# Altium integrated library Microchip dsPIC33F.IntLib: 775 symbols (part 22 of 44)
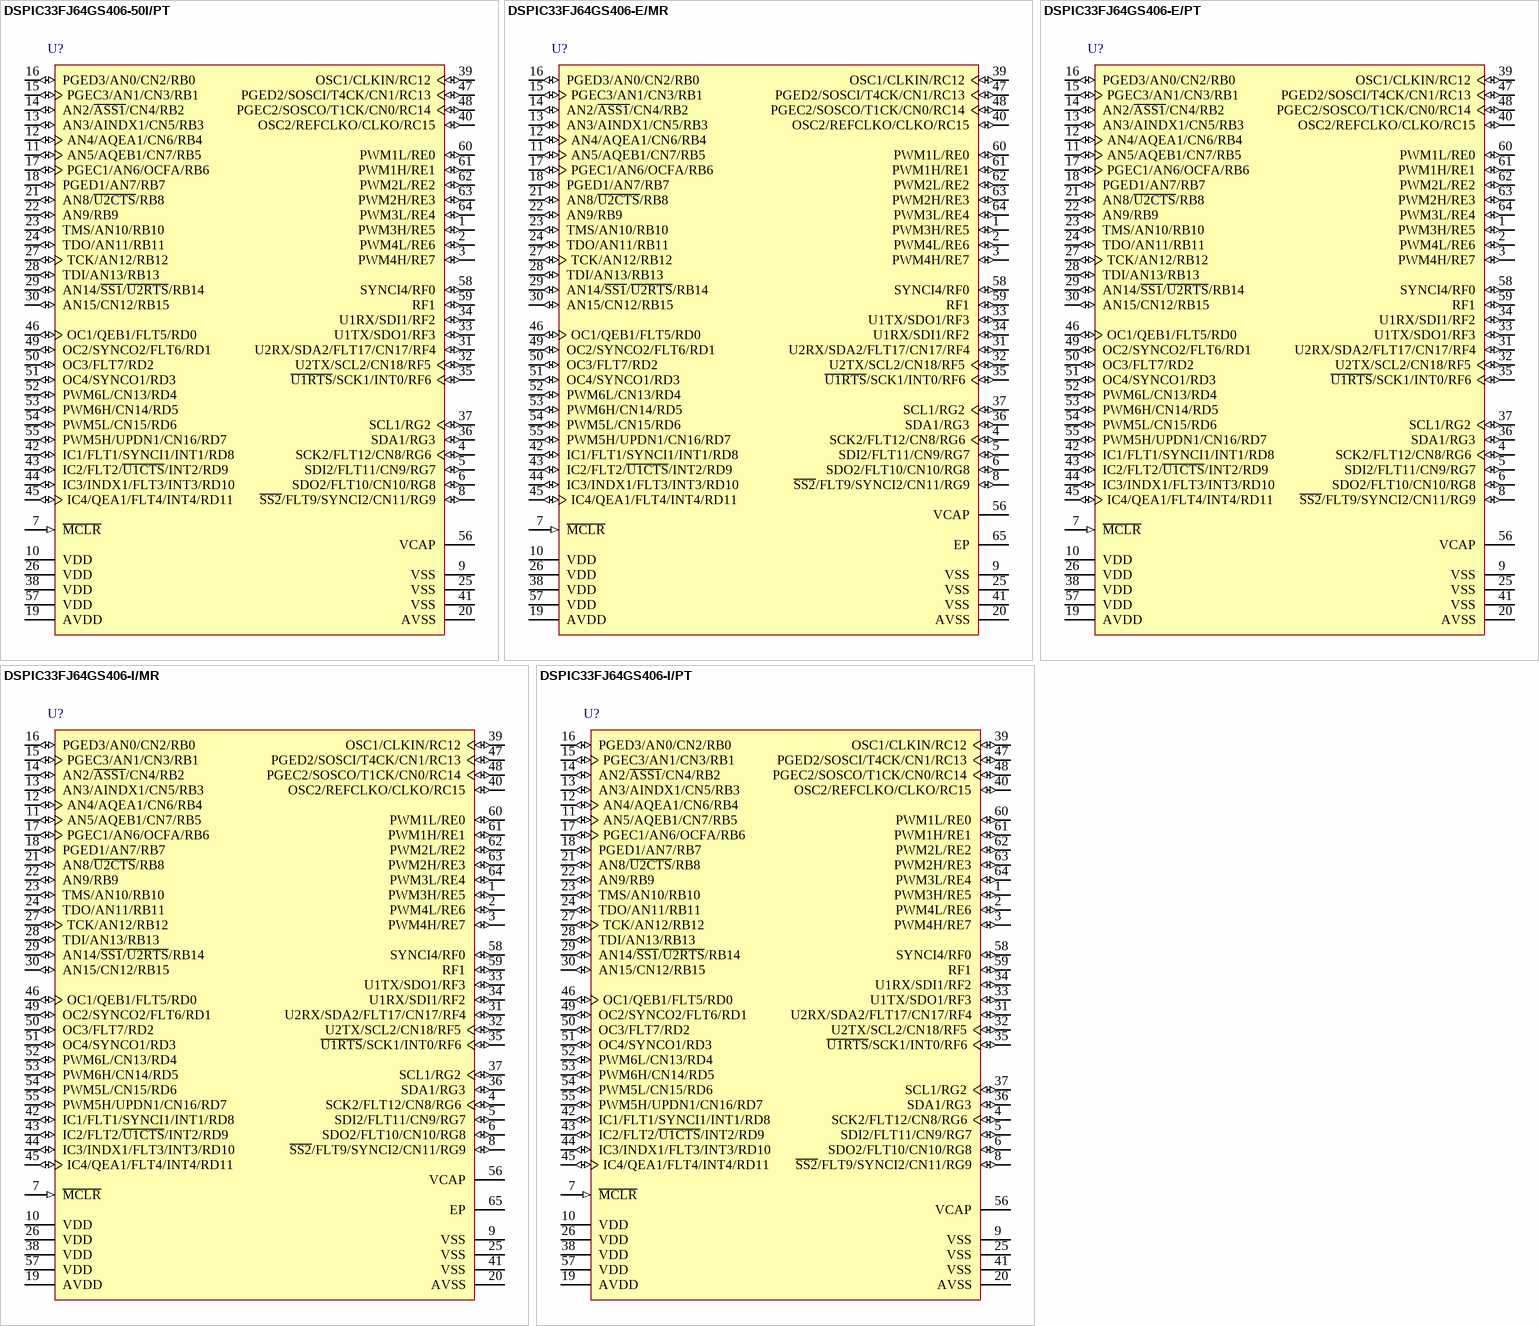
[diagram p179: symbols DSPIC33FJ64GS406-50I/PT to DSPIC33FJ64GS406-I/PT]

## DSPIC33FJ64GS406-50I/PT
designator U?
16-Bit Digital Signal Controller with High-Speed PWM, ADC, 50 MIPS, 58 I/O, GPIO, -40 to 85 degC, 64-pin TQFP (PT64), Tray; Manufacturer: Microchip; PartNumber: DSPIC33FJ64GS406-50I/PT; DatasheetVersion: Rev. E; PackageVersion: C04-085B; PackageReference: TQFP-PT64; PackageDescription: 64-Lead Plastic Thin Quad FlatPack, 10 x 10 mm Body, 0.5 mm Pitch; Supplier 1: Digi-Key; Supplier Part Number 1: DSPIC33FJ64GS406-50I/PT-ND; Supplier 2: Mouser; Supplier Part Number 2: 579-33F64GS40650IPT; Mounting Technology: Surface Mount; ComponentLink1Description: Manufacturer URL; ComponentLink1URL: http://www.microchip.com; ComponentLink2Description: Datasheet; ComponentLink2URL: http://ww1.microchip.com/downloads/en/DeviceDoc/70591e.pdf; ComponentLink3Description: Package Specification; ComponentLink3URL: http://www.microchip.com/stellent/groups/techpub_sg/documents/packagingspec/en012702.pdf; ComponentLink4Description: Product URL; ComponentLink4URL: http://www.microchip.com/dsPIC33FJ64GS406
footprint MCHP-TQFP-PT64_N (TQFP, 64-Leads, Body 10x10mm, Pitch 0.5mm, IPC Medium Density)
footprint MCHP-TQFP-PT64_L (TQFP, 64-Leads, Body 10x10mm, Pitch 0.5mm, IPC High Density)
footprint MCHP-TQFP-PT64_M (TQFP, 64-Leads, Body 10x10mm, Pitch 0.5mm, IPC Low Density)
pins: 1 PWM3H/RE5 (io), 2 PWM4L/RE6 (io), 3 PWM4H/RE7 (io), 4 SCK2/FLT12/CN8/RG6 (io), 5 SDI2/FLT11/CN9/RG7 (io), 6 SDO2/FLT10/CN10/RG8 (io), 7 ~{MCLR} (in) "Master Clear (Reset) input. This pin is an active-low Reset to the device.", 8 ~{SS2}/FLT9/SYNCI2/CN11/RG9 (io), 9 VSS (power) "Ground reference for logic and I/O pins.", 10 VDD (power) "Positive supply for peripheral logic and I/O pins.", 11 AN5/AQEB1/CN7/RB5 (io), 12 AN4/AQEA1/CN6/RB4 (io), 13 AN3/AINDX1/CN5/RB3 (io), 14 AN2/~{ASS1}/CN4/RB2 (io), 15 PGEC3/AN1/CN3/RB1 (io), 16 PGED3/AN0/CN2/RB0 (io), 17 PGEC1/AN6/OCFA/RB6 (io), 18 PGED1/AN7/RB7 (io), 19 AVDD (power) "Positive supply for analog modules. This pin must be connected at all times.", 20 AVSS (power) "Ground reference for analog modules.", 21 AN8/~{U2CTS}/RB8 (io), 22 AN9/RB9 (io), 23 TMS/AN10/RB10 (io), 24 TDO/AN11/RB11 (io), 25 VSS (power) "Ground reference for logic and I/O pins.", 26 VDD (power) "Positive supply for peripheral logic and I/O pins.", 27 TCK/AN12/RB12 (io), 28 TDI/AN13/RB13 (io), 29 AN14/~{SS1}/~{U2RTS}/RB14 (io), 30 AN15/CN12/RB15 (io), 31 U2RX/SDA2/FLT17/CN17/RF4 (io), 32 U2TX/SCL2/CN18/RF5 (io), 33 U1TX/SDO1/RF3 (io), 34 U1RX/SDI1/RF2 (io), 35 ~{U1RTS}/SCK1/INT0/RF6 (io), 36 SDA1/RG3 (io), 37 SCL1/RG2 (io), 38 VDD (power) "Positive supply for peripheral logic and I/O pins.", 39 OSC1/CLKIN/RC12 (io), 40 OSC2/REFCLKO/CLKO/RC15 (io), 41 VSS (power) "Ground reference for logic and I/O pins.", 42 IC1/FLT1/SYNCI1/INT1/RD8 (io), 43 IC2/FLT2/~{U1CTS}/INT2/RD9 (io), 44 IC3/INDX1/FLT3/INT3/RD10 (io), 45 IC4/QEA1/FLT4/INT4/RD11 (io), 46 OC1/QEB1/FLT5/RD0 (io), 47 PGED2/SOSCI/T4CK/CN1/RC13 (io), 48 PGEC2/SOSCO/T1CK/CN0/RC14 (io), 49 OC2/SYNCO2/FLT6/RD1 (io), 50 OC3/FLT7/RD2 (io), 51 OC4/SYNCO1/RD3 (io), 52 PWM6L/CN13/RD4 (io), 53 PWM6H/CN14/RD5 (io), 54 PWM5L/CN15/RD6 (io), 55 PWM5H/UPDN1/CN16/RD7 (io), 56 VCAP "CPU logic filter capacitor connection.", 57 VDD (power) "Positive supply for peripheral logic and I/O pins.", 58 SYNCI4/RF0 (io), 59 RF1 (io) "PORTF is a bidirectional I/O port.", 60 PWM1L/RE0 (io), 61 PWM1H/RE1 (io), 62 PWM2L/RE2 (io), 63 PWM2H/RE3 (io), 64 PWM3L/RE4 (io)

## DSPIC33FJ64GS406-E/MR
designator U?
16-Bit Digital Signal Controller with High-Speed PWM, ADC, 50 MIPS, 58 I/O, GPIO, -40 to 125 degC, 64-pin QFN (MR64), Tube; Manufacturer: Microchip; PartNumber: DSPIC33FJ64GS406-E/MR; DatasheetVersion: Rev. E; PackageVersion: C04-149C; PackageReference: QFN-MR64; PackageDescription: 64-Lead Plastic Quad Flat, 9 x 9 mm Body, 0.5 mm Pitch; Supplier 1: Digi-Key; Supplier Part Number 1: DSPIC33FJ64GS406-E/MR-ND; Supplier 2: Mouser; Supplier Part Number 2: 579-33FJ64GS406-E/MR; Mounting Technology: Surface Mount; ComponentLink1Description: Manufacturer URL; ComponentLink1URL: http://www.microchip.com; ComponentLink2Description: Datasheet; ComponentLink2URL: http://ww1.microchip.com/downloads/en/DeviceDoc/70591e.pdf; ComponentLink3Description: Package Specification; ComponentLink3URL: http://www.microchip.com/stellent/groups/techpub_sg/documents/packagingspec/en012702.pdf; ComponentLink4Description: Product URL; ComponentLink4URL: http://www.microchip.com/dsPIC33FJ64GS406
footprint MCHP-QFN-MR64-7275X7275TP_N (QFN, 64-Leads, Body 9x9mm, Pitch 0.5mm, Thermal Pad 7.275x7.275mm, IPC Medium Density)
footprint MCHP-QFN-MR64-7275X7275TP_L (QFN, 64-Leads, Body 9x9mm, Pitch 0.5mm, Thermal Pad 7.275x7.275mm, IPC High Density)
footprint MCHP-QFN-MR64-7275X7275TP_M (QFN, 64-Leads, Body 9x9mm, Pitch 0.5mm, Thermal Pad 7.275x7.275mm, IPC Low Density)
pins: 1 PWM3H/RE5 (io), 2 PWM4L/RE6 (io), 3 PWM4H/RE7 (io), 4 SCK2/FLT12/CN8/RG6 (io), 5 SDI2/FLT11/CN9/RG7 (io), 6 SDO2/FLT10/CN10/RG8 (io), 7 ~{MCLR} (in) "Master Clear (Reset) input. This pin is an active-low Reset to the device.", 8 ~{SS2}/FLT9/SYNCI2/CN11/RG9 (io), 9 VSS (power) "Ground reference for logic and I/O pins.", 10 VDD (power) "Positive supply for peripheral logic and I/O pins.", 11 AN5/AQEB1/CN7/RB5 (io), 12 AN4/AQEA1/CN6/RB4 (io), 13 AN3/AINDX1/CN5/RB3 (io), 14 AN2/~{ASS1}/CN4/RB2 (io), 15 PGEC3/AN1/CN3/RB1 (io), 16 PGED3/AN0/CN2/RB0 (io), 17 PGEC1/AN6/OCFA/RB6 (io), 18 PGED1/AN7/RB7 (io), 19 AVDD (power) "Positive supply for analog modules. This pin must be connected at all times.", 20 AVSS (power) "Ground reference for analog modules.", 21 AN8/~{U2CTS}/RB8 (io), 22 AN9/RB9 (io), 23 TMS/AN10/RB10 (io), 24 TDO/AN11/RB11 (io), 25 VSS (power) "Ground reference for logic and I/O pins.", 26 VDD (power) "Positive supply for peripheral logic and I/O pins.", 27 TCK/AN12/RB12 (io), 28 TDI/AN13/RB13 (io), 29 AN14/~{SS1}/~{U2RTS}/RB14 (io), 30 AN15/CN12/RB15 (io), 31 U2RX/SDA2/FLT17/CN17/RF4 (io), 32 U2TX/SCL2/CN18/RF5 (io), 33 U1TX/SDO1/RF3 (io), 34 U1RX/SDI1/RF2 (io), 35 ~{U1RTS}/SCK1/INT0/RF6 (io), 36 SDA1/RG3 (io), 37 SCL1/RG2 (io), 38 VDD (power) "Positive supply for peripheral logic and I/O pins.", 39 OSC1/CLKIN/RC12 (io), 40 OSC2/REFCLKO/CLKO/RC15 (io), 41 VSS (power) "Ground reference for logic and I/O pins.", 42 IC1/FLT1/SYNCI1/INT1/RD8 (io), 43 IC2/FLT2/~{U1CTS}/INT2/RD9 (io), 44 IC3/INDX1/FLT3/INT3/RD10 (io), 45 IC4/QEA1/FLT4/INT4/RD11 (io), 46 OC1/QEB1/FLT5/RD0 (io), 47 PGED2/SOSCI/T4CK/CN1/RC13 (io), 48 PGEC2/SOSCO/T1CK/CN0/RC14 (io), 49 OC2/SYNCO2/FLT6/RD1 (io), 50 OC3/FLT7/RD2 (io), 51 OC4/SYNCO1/RD3 (io), 52 PWM6L/CN13/RD4 (io), 53 PWM6H/CN14/RD5 (io), 54 PWM5L/CN15/RD6 (io), 55 PWM5H/UPDN1/CN16/RD7 (io), 56 VCAP "CPU logic filter capacitor connection.", 57 VDD (power) "Positive supply for peripheral logic and I/O pins.", 58 SYNCI4/RF0 (io), 59 RF1 (io) "PORTF is a bidirectional I/O port.", 60 PWM1L/RE0 (io), 61 PWM1H/RE1 (io), 62 PWM2L/RE2 (io), 63 PWM2H/RE3 (io), 64 PWM3L/RE4 (io), 65 EP (power)

## DSPIC33FJ64GS406-E/PT
designator U?
16-Bit Digital Signal Controller with High-Speed PWM, ADC, 50 MIPS, 58 I/O, GPIO, -40 to 125 degC, 64-pin TQFP (PT64), Tray; Manufacturer: Microchip; PartNumber: DSPIC33FJ64GS406-E/PT; DatasheetVersion: Rev. E; PackageVersion: C04-085B; PackageReference: TQFP-PT64; PackageDescription: 64-Lead Plastic Thin Quad FlatPack, 10 x 10 mm Body, 0.5 mm Pitch; Supplier 1: Digi-Key; Supplier Part Number 1: DSPIC33FJ64GS406-E/PT-ND; Supplier 2: Mouser; Supplier Part Number 2: 579-33FJ64GS406-E/PT; Mounting Technology: Surface Mount; ComponentLink1Description: Manufacturer URL; ComponentLink1URL: http://www.microchip.com; ComponentLink2Description: Datasheet; ComponentLink2URL: http://ww1.microchip.com/downloads/en/DeviceDoc/70591e.pdf; ComponentLink3Description: Package Specification; ComponentLink3URL: http://www.microchip.com/stellent/groups/techpub_sg/documents/packagingspec/en012702.pdf; ComponentLink4Description: Product URL; ComponentLink4URL: http://www.microchip.com/dsPIC33FJ64GS406
footprint MCHP-TQFP-PT64_N (TQFP, 64-Leads, Body 10x10mm, Pitch 0.5mm, IPC Medium Density)
footprint MCHP-TQFP-PT64_L (TQFP, 64-Leads, Body 10x10mm, Pitch 0.5mm, IPC High Density)
footprint MCHP-TQFP-PT64_M (TQFP, 64-Leads, Body 10x10mm, Pitch 0.5mm, IPC Low Density)
pins: 1 PWM3H/RE5 (io), 2 PWM4L/RE6 (io), 3 PWM4H/RE7 (io), 4 SCK2/FLT12/CN8/RG6 (io), 5 SDI2/FLT11/CN9/RG7 (io), 6 SDO2/FLT10/CN10/RG8 (io), 7 ~{MCLR} (in) "Master Clear (Reset) input. This pin is an active-low Reset to the device.", 8 ~{SS2}/FLT9/SYNCI2/CN11/RG9 (io), 9 VSS (power) "Ground reference for logic and I/O pins.", 10 VDD (power) "Positive supply for peripheral logic and I/O pins.", 11 AN5/AQEB1/CN7/RB5 (io), 12 AN4/AQEA1/CN6/RB4 (io), 13 AN3/AINDX1/CN5/RB3 (io), 14 AN2/~{ASS1}/CN4/RB2 (io), 15 PGEC3/AN1/CN3/RB1 (io), 16 PGED3/AN0/CN2/RB0 (io), 17 PGEC1/AN6/OCFA/RB6 (io), 18 PGED1/AN7/RB7 (io), 19 AVDD (power) "Positive supply for analog modules. This pin must be connected at all times.", 20 AVSS (power) "Ground reference for analog modules.", 21 AN8/~{U2CTS}/RB8 (io), 22 AN9/RB9 (io), 23 TMS/AN10/RB10 (io), 24 TDO/AN11/RB11 (io), 25 VSS (power) "Ground reference for logic and I/O pins.", 26 VDD (power) "Positive supply for peripheral logic and I/O pins.", 27 TCK/AN12/RB12 (io), 28 TDI/AN13/RB13 (io), 29 AN14/~{SS1}/~{U2RTS}/RB14 (io), 30 AN15/CN12/RB15 (io), 31 U2RX/SDA2/FLT17/CN17/RF4 (io), 32 U2TX/SCL2/CN18/RF5 (io), 33 U1TX/SDO1/RF3 (io), 34 U1RX/SDI1/RF2 (io), 35 ~{U1RTS}/SCK1/INT0/RF6 (io), 36 SDA1/RG3 (io), 37 SCL1/RG2 (io), 38 VDD (power) "Positive supply for peripheral logic and I/O pins.", 39 OSC1/CLKIN/RC12 (io), 40 OSC2/REFCLKO/CLKO/RC15 (io), 41 VSS (power) "Ground reference for logic and I/O pins.", 42 IC1/FLT1/SYNCI1/INT1/RD8 (io), 43 IC2/FLT2/~{U1CTS}/INT2/RD9 (io), 44 IC3/INDX1/FLT3/INT3/RD10 (io), 45 IC4/QEA1/FLT4/INT4/RD11 (io), 46 OC1/QEB1/FLT5/RD0 (io), 47 PGED2/SOSCI/T4CK/CN1/RC13 (io), 48 PGEC2/SOSCO/T1CK/CN0/RC14 (io), 49 OC2/SYNCO2/FLT6/RD1 (io), 50 OC3/FLT7/RD2 (io), 51 OC4/SYNCO1/RD3 (io), 52 PWM6L/CN13/RD4 (io), 53 PWM6H/CN14/RD5 (io), 54 PWM5L/CN15/RD6 (io), 55 PWM5H/UPDN1/CN16/RD7 (io), 56 VCAP "CPU logic filter capacitor connection.", 57 VDD (power) "Positive supply for peripheral logic and I/O pins.", 58 SYNCI4/RF0 (io), 59 RF1 (io) "PORTF is a bidirectional I/O port.", 60 PWM1L/RE0 (io), 61 PWM1H/RE1 (io), 62 PWM2L/RE2 (io), 63 PWM2H/RE3 (io), 64 PWM3L/RE4 (io)

## DSPIC33FJ64GS406-I/MR
designator U?
16-Bit Digital Signal Controller with High-Speed PWM, ADC, 50 MIPS, 58 I/O, GPIO, -40 to 85 degC, 64-pin QFN (MR64), Tube; Manufacturer: Microchip; PartNumber: DSPIC33FJ64GS406-I/MR; DatasheetVersion: Rev. E; PackageVersion: C04-149C; PackageReference: QFN-MR64; PackageDescription: 64-Lead Plastic Quad Flat, 9 x 9 mm Body, 0.5 mm Pitch; Supplier 1: Digi-Key; Supplier Part Number 1: DSPIC33FJ64GS406-I/MR-ND; Supplier 2: Mouser; Supplier Part Number 2: 579-33FJ64GS406-I/MR; Mounting Technology: Surface Mount; ComponentLink1Description: Manufacturer URL; ComponentLink1URL: http://www.microchip.com; ComponentLink2Description: Datasheet; ComponentLink2URL: http://ww1.microchip.com/downloads/en/DeviceDoc/70591e.pdf; ComponentLink3Description: Package Specification; ComponentLink3URL: http://www.microchip.com/stellent/groups/techpub_sg/documents/packagingspec/en012702.pdf; ComponentLink4Description: Product URL; ComponentLink4URL: http://www.microchip.com/dsPIC33FJ64GS406
footprint MCHP-QFN-MR64-7275X7275TP_N (QFN, 64-Leads, Body 9x9mm, Pitch 0.5mm, Thermal Pad 7.275x7.275mm, IPC Medium Density)
footprint MCHP-QFN-MR64-7275X7275TP_L (QFN, 64-Leads, Body 9x9mm, Pitch 0.5mm, Thermal Pad 7.275x7.275mm, IPC High Density)
footprint MCHP-QFN-MR64-7275X7275TP_M (QFN, 64-Leads, Body 9x9mm, Pitch 0.5mm, Thermal Pad 7.275x7.275mm, IPC Low Density)
pins: 1 PWM3H/RE5 (io), 2 PWM4L/RE6 (io), 3 PWM4H/RE7 (io), 4 SCK2/FLT12/CN8/RG6 (io), 5 SDI2/FLT11/CN9/RG7 (io), 6 SDO2/FLT10/CN10/RG8 (io), 7 ~{MCLR} (in) "Master Clear (Reset) input. This pin is an active-low Reset to the device.", 8 ~{SS2}/FLT9/SYNCI2/CN11/RG9 (io), 9 VSS (power) "Ground reference for logic and I/O pins.", 10 VDD (power) "Positive supply for peripheral logic and I/O pins.", 11 AN5/AQEB1/CN7/RB5 (io), 12 AN4/AQEA1/CN6/RB4 (io), 13 AN3/AINDX1/CN5/RB3 (io), 14 AN2/~{ASS1}/CN4/RB2 (io), 15 PGEC3/AN1/CN3/RB1 (io), 16 PGED3/AN0/CN2/RB0 (io), 17 PGEC1/AN6/OCFA/RB6 (io), 18 PGED1/AN7/RB7 (io), 19 AVDD (power) "Positive supply for analog modules. This pin must be connected at all times.", 20 AVSS (power) "Ground reference for analog modules.", 21 AN8/~{U2CTS}/RB8 (io), 22 AN9/RB9 (io), 23 TMS/AN10/RB10 (io), 24 TDO/AN11/RB11 (io), 25 VSS (power) "Ground reference for logic and I/O pins.", 26 VDD (power) "Positive supply for peripheral logic and I/O pins.", 27 TCK/AN12/RB12 (io), 28 TDI/AN13/RB13 (io), 29 AN14/~{SS1}/~{U2RTS}/RB14 (io), 30 AN15/CN12/RB15 (io), 31 U2RX/SDA2/FLT17/CN17/RF4 (io), 32 U2TX/SCL2/CN18/RF5 (io), 33 U1TX/SDO1/RF3 (io), 34 U1RX/SDI1/RF2 (io), 35 ~{U1RTS}/SCK1/INT0/RF6 (io), 36 SDA1/RG3 (io), 37 SCL1/RG2 (io), 38 VDD (power) "Positive supply for peripheral logic and I/O pins.", 39 OSC1/CLKIN/RC12 (io), 40 OSC2/REFCLKO/CLKO/RC15 (io), 41 VSS (power) "Ground reference for logic and I/O pins.", 42 IC1/FLT1/SYNCI1/INT1/RD8 (io), 43 IC2/FLT2/~{U1CTS}/INT2/RD9 (io), 44 IC3/INDX1/FLT3/INT3/RD10 (io), 45 IC4/QEA1/FLT4/INT4/RD11 (io), 46 OC1/QEB1/FLT5/RD0 (io), 47 PGED2/SOSCI/T4CK/CN1/RC13 (io), 48 PGEC2/SOSCO/T1CK/CN0/RC14 (io), 49 OC2/SYNCO2/FLT6/RD1 (io), 50 OC3/FLT7/RD2 (io), 51 OC4/SYNCO1/RD3 (io), 52 PWM6L/CN13/RD4 (io), 53 PWM6H/CN14/RD5 (io), 54 PWM5L/CN15/RD6 (io), 55 PWM5H/UPDN1/CN16/RD7 (io), 56 VCAP "CPU logic filter capacitor connection.", 57 VDD (power) "Positive supply for peripheral logic and I/O pins.", 58 SYNCI4/RF0 (io), 59 RF1 (io) "PORTF is a bidirectional I/O port.", 60 PWM1L/RE0 (io), 61 PWM1H/RE1 (io), 62 PWM2L/RE2 (io), 63 PWM2H/RE3 (io), 64 PWM3L/RE4 (io), 65 EP (power)

## DSPIC33FJ64GS406-I/PT
designator U?
16-Bit Digital Signal Controller with High-Speed PWM, ADC, 50 MIPS, 58 I/O, GPIO, -40 to 85 degC, 64-pin TQFP (PT64), Tray; Manufacturer: Microchip; PartNumber: DSPIC33FJ64GS406-I/PT; DatasheetVersion: Rev. E; PackageVersion: C04-085B; PackageReference: TQFP-PT64; PackageDescription: 64-Lead Plastic Thin Quad FlatPack, 10 x 10 mm Body, 0.5 mm Pitch; Supplier 1: Digi-Key; Supplier Part Number 1: DSPIC33FJ64GS406-I/PT-ND; Supplier 2: Farnell; Supplier Part Number 2: 1823293; Supplier 3: Farnell; Supplier Part Number 3: 1823293MPKG; Supplier 4: Newark; Supplier Part Number 4: 08R1551; Supplier 5: Mouser; Supplier Part Number 5: 579-33FJ64GS406-I/PT; Mounting Technology: Surface Mount; ComponentLink1Description: Manufacturer URL; ComponentLink1URL: http://www.microchip.com; ComponentLink2Description: Datasheet; ComponentLink2URL: http://ww1.microchip.com/downloads/en/DeviceDoc/70591e.pdf; ComponentLink3Description: Package Specification; ComponentLink3URL: http://www.microchip.com/stellent/groups/techpub_sg/documents/packagingspec/en012702.pdf; ComponentLink4Description: Product URL; ComponentLink4URL: http://www.microchip.com/dsPIC33FJ64GS406
footprint MCHP-TQFP-PT64_N (TQFP, 64-Leads, Body 10x10mm, Pitch 0.5mm, IPC Medium Density)
footprint MCHP-TQFP-PT64_L (TQFP, 64-Leads, Body 10x10mm, Pitch 0.5mm, IPC High Density)
footprint MCHP-TQFP-PT64_M (TQFP, 64-Leads, Body 10x10mm, Pitch 0.5mm, IPC Low Density)
pins: 1 PWM3H/RE5 (io), 2 PWM4L/RE6 (io), 3 PWM4H/RE7 (io), 4 SCK2/FLT12/CN8/RG6 (io), 5 SDI2/FLT11/CN9/RG7 (io), 6 SDO2/FLT10/CN10/RG8 (io), 7 ~{MCLR} (in) "Master Clear (Reset) input. This pin is an active-low Reset to the device.", 8 ~{SS2}/FLT9/SYNCI2/CN11/RG9 (io), 9 VSS (power) "Ground reference for logic and I/O pins.", 10 VDD (power) "Positive supply for peripheral logic and I/O pins.", 11 AN5/AQEB1/CN7/RB5 (io), 12 AN4/AQEA1/CN6/RB4 (io), 13 AN3/AINDX1/CN5/RB3 (io), 14 AN2/~{ASS1}/CN4/RB2 (io), 15 PGEC3/AN1/CN3/RB1 (io), 16 PGED3/AN0/CN2/RB0 (io), 17 PGEC1/AN6/OCFA/RB6 (io), 18 PGED1/AN7/RB7 (io), 19 AVDD (power) "Positive supply for analog modules. This pin must be connected at all times.", 20 AVSS (power) "Ground reference for analog modules.", 21 AN8/~{U2CTS}/RB8 (io), 22 AN9/RB9 (io), 23 TMS/AN10/RB10 (io), 24 TDO/AN11/RB11 (io), 25 VSS (power) "Ground reference for logic and I/O pins.", 26 VDD (power) "Positive supply for peripheral logic and I/O pins.", 27 TCK/AN12/RB12 (io), 28 TDI/AN13/RB13 (io), 29 AN14/~{SS1}/~{U2RTS}/RB14 (io), 30 AN15/CN12/RB15 (io), 31 U2RX/SDA2/FLT17/CN17/RF4 (io), 32 U2TX/SCL2/CN18/RF5 (io), 33 U1TX/SDO1/RF3 (io), 34 U1RX/SDI1/RF2 (io), 35 ~{U1RTS}/SCK1/INT0/RF6 (io), 36 SDA1/RG3 (io), 37 SCL1/RG2 (io), 38 VDD (power) "Positive supply for peripheral logic and I/O pins.", 39 OSC1/CLKIN/RC12 (io), 40 OSC2/REFCLKO/CLKO/RC15 (io), 41 VSS (power) "Ground reference for logic and I/O pins.", 42 IC1/FLT1/SYNCI1/INT1/RD8 (io), 43 IC2/FLT2/~{U1CTS}/INT2/RD9 (io), 44 IC3/INDX1/FLT3/INT3/RD10 (io), 45 IC4/QEA1/FLT4/INT4/RD11 (io), 46 OC1/QEB1/FLT5/RD0 (io), 47 PGED2/SOSCI/T4CK/CN1/RC13 (io), 48 PGEC2/SOSCO/T1CK/CN0/RC14 (io), 49 OC2/SYNCO2/FLT6/RD1 (io), 50 OC3/FLT7/RD2 (io), 51 OC4/SYNCO1/RD3 (io), 52 PWM6L/CN13/RD4 (io), 53 PWM6H/CN14/RD5 (io), 54 PWM5L/CN15/RD6 (io), 55 PWM5H/UPDN1/CN16/RD7 (io), 56 VCAP "CPU logic filter capacitor connection.", 57 VDD (power) "Positive supply for peripheral logic and I/O pins.", 58 SYNCI4/RF0 (io), 59 RF1 (io) "PORTF is a bidirectional I/O port.", 60 PWM1L/RE0 (io), 61 PWM1H/RE1 (io), 62 PWM2L/RE2 (io), 63 PWM2H/RE3 (io), 64 PWM3L/RE4 (io)

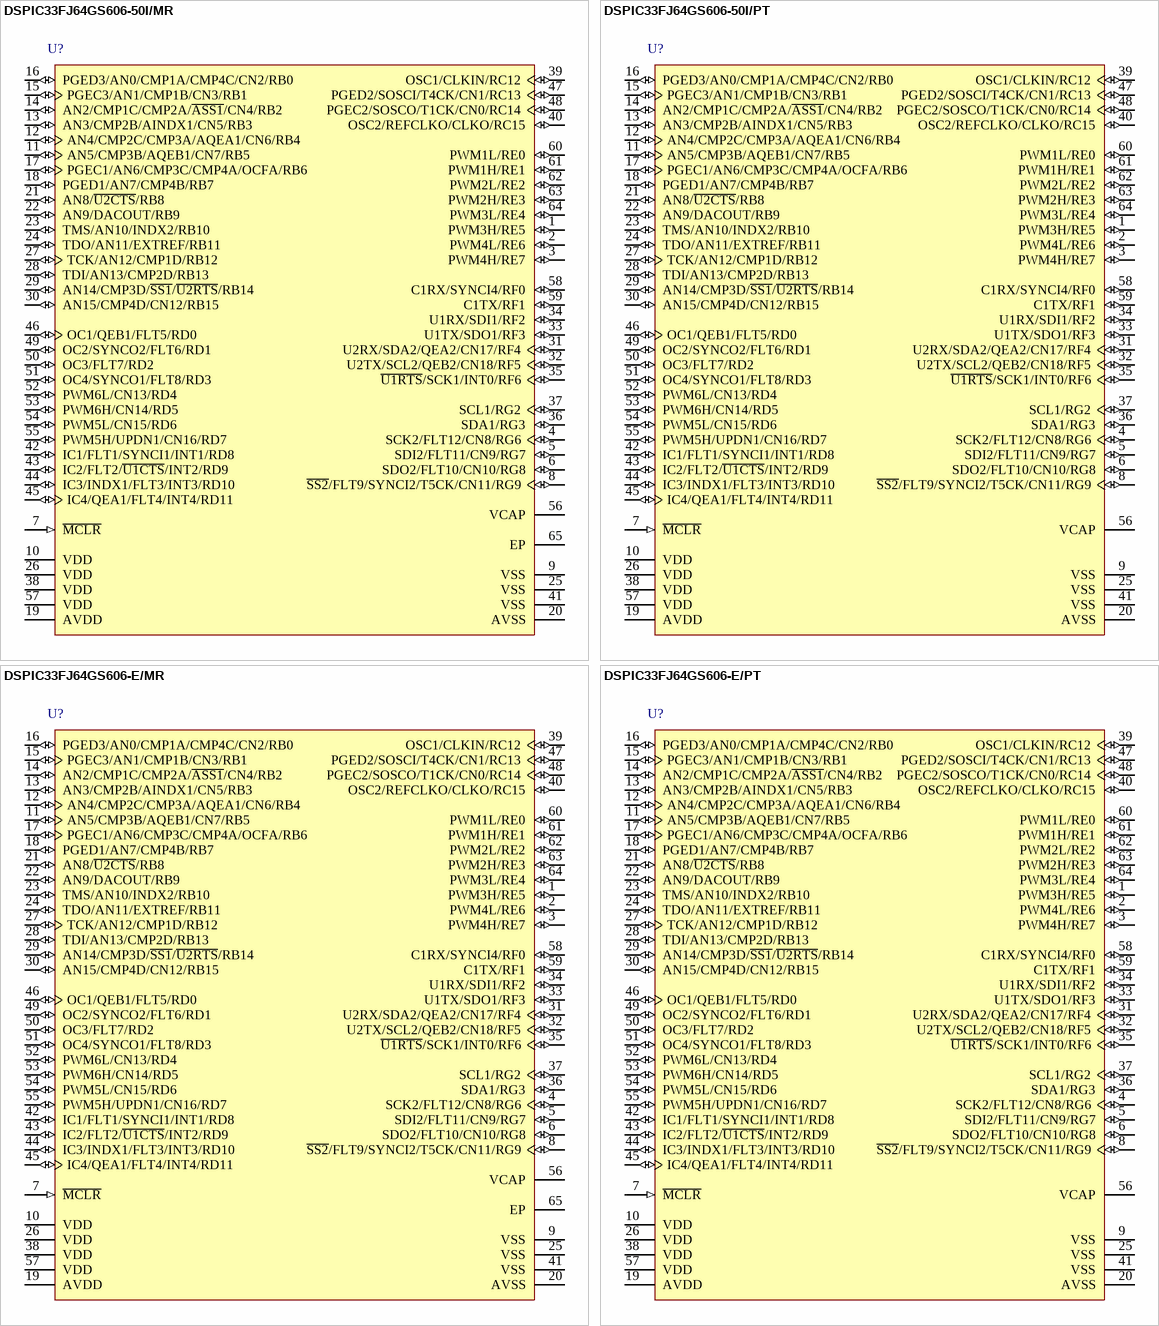
[diagram p71: symbols DSPIC33FJ64GS606-50I/MR to DSPIC33FJ64GS606-E/PT]

## DSPIC33FJ64GS606-50I/MR
designator U?
16-Bit Digital Signal Controller with High-Speed PWM, ADC and Comparators, 50 MIPS, 58 I/O, GPIO, -40 to 85 degC, 64-pin QFN (MR64), Tube; Manufacturer: Microchip; PartNumber: DSPIC33FJ64GS606-50I/MR; DatasheetVersion: Rev. E; PackageVersion: C04-149C; PackageReference: QFN-MR64; PackageDescription: 64-Lead Plastic Quad Flat, 9 x 9 mm Body, 0.5 mm Pitch; Supplier 1: Digi-Key; Supplier Part Number 1: DSPIC33FJ64GS606-50I/MR-ND; Supplier 2: Mouser; Supplier Part Number 2: 579-33F64GS60650IMR; Mounting Technology: Surface Mount; ComponentLink1Description: Manufacturer URL; ComponentLink1URL: http://www.microchip.com; ComponentLink2Description: Datasheet; ComponentLink2URL: http://ww1.microchip.com/downloads/en/DeviceDoc/70591e.pdf; ComponentLink3Description: Package Specification; ComponentLink3URL: http://www.microchip.com/stellent/groups/techpub_sg/documents/packagingspec/en012702.pdf; ComponentLink4Description: Product URL; ComponentLink4URL: http://www.microchip.com/dsPIC33FJ64GS606
footprint MCHP-QFN-MR64-7275X7275TP_N (QFN, 64-Leads, Body 9x9mm, Pitch 0.5mm, Thermal Pad 7.275x7.275mm, IPC Medium Density)
footprint MCHP-QFN-MR64-7275X7275TP_L (QFN, 64-Leads, Body 9x9mm, Pitch 0.5mm, Thermal Pad 7.275x7.275mm, IPC High Density)
footprint MCHP-QFN-MR64-7275X7275TP_M (QFN, 64-Leads, Body 9x9mm, Pitch 0.5mm, Thermal Pad 7.275x7.275mm, IPC Low Density)
pins: 1 PWM3H/RE5 (io), 2 PWM4L/RE6 (io), 3 PWM4H/RE7 (io), 4 SCK2/FLT12/CN8/RG6 (io), 5 SDI2/FLT11/CN9/RG7 (io), 6 SDO2/FLT10/CN10/RG8 (io), 7 ~{MCLR} (in) "Master Clear (Reset) input. This pin is an active-low Reset to the device.", 8 ~{SS2}/FLT9/SYNCI2/T5CK/CN11/RG9 (io), 9 VSS (power) "Ground reference for logic and I/O pins.", 10 VDD (power) "Positive supply for peripheral logic and I/O pins.", 11 AN5/CMP3B/AQEB1/CN7/RB5 (io), 12 AN4/CMP2C/CMP3A/AQEA1/CN6/RB4 (io), 13 AN3/CMP2B/AINDX1/CN5/RB3 (io), 14 AN2/CMP1C/CMP2A/~{ASS1}/CN4/RB2 (io), 15 PGEC3/AN1/CMP1B/CN3/RB1 (io), 16 PGED3/AN0/CMP1A/CMP4C/CN2/RB0 (io), 17 PGEC1/AN6/CMP3C/CMP4A/OCFA/RB6 (io), 18 PGED1/AN7/CMP4B/RB7 (io), 19 AVDD (power) "Positive supply for analog modules. This pin must be connected at all times.", 20 AVSS (power) "Ground reference for analog modules.", 21 AN8/~{U2CTS}/RB8 (io), 22 AN9/DACOUT/RB9 (io), 23 TMS/AN10/INDX2/RB10 (io), 24 TDO/AN11/EXTREF/RB11 (io), 25 VSS (power) "Ground reference for logic and I/O pins.", 26 VDD (power) "Positive supply for peripheral logic and I/O pins.", 27 TCK/AN12/CMP1D/RB12 (io), 28 TDI/AN13/CMP2D/RB13 (io), 29 AN14/CMP3D/~{SS1}/~{U2RTS}/RB14 (io), 30 AN15/CMP4D/CN12/RB15 (io), 31 U2RX/SDA2/QEA2/CN17/RF4 (io), 32 U2TX/SCL2/QEB2/CN18/RF5 (io), 33 U1TX/SDO1/RF3 (io), 34 U1RX/SDI1/RF2 (io), 35 ~{U1RTS}/SCK1/INT0/RF6 (io), 36 SDA1/RG3 (io), 37 SCL1/RG2 (io), 38 VDD (power) "Positive supply for peripheral logic and I/O pins.", 39 OSC1/CLKIN/RC12 (io), 40 OSC2/REFCLKO/CLKO/RC15 (io), 41 VSS (power) "Ground reference for logic and I/O pins.", 42 IC1/FLT1/SYNCI1/INT1/RD8 (io), 43 IC2/FLT2/~{U1CTS}/INT2/RD9 (io), 44 IC3/INDX1/FLT3/INT3/RD10 (io), 45 IC4/QEA1/FLT4/INT4/RD11 (io), 46 OC1/QEB1/FLT5/RD0 (io), 47 PGED2/SOSCI/T4CK/CN1/RC13 (io), 48 PGEC2/SOSCO/T1CK/CN0/RC14 (io), 49 OC2/SYNCO2/FLT6/RD1 (io), 50 OC3/FLT7/RD2 (io), 51 OC4/SYNCO1/FLT8/RD3 (io), 52 PWM6L/CN13/RD4 (io), 53 PWM6H/CN14/RD5 (io), 54 PWM5L/CN15/RD6 (io), 55 PWM5H/UPDN1/CN16/RD7 (io), 56 VCAP "CPU logic filter capacitor connection.", 57 VDD (power) "Positive supply for peripheral logic and I/O pins.", 58 C1RX/SYNCI4/RF0 (io), 59 C1TX/RF1 (io), 60 PWM1L/RE0 (io), 61 PWM1H/RE1 (io), 62 PWM2L/RE2 (io), 63 PWM2H/RE3 (io), 64 PWM3L/RE4 (io), 65 EP (power)

## DSPIC33FJ64GS606-50I/PT
designator U?
16-Bit Digital Signal Controller with High-Speed PWM, ADC and Comparators, 50 MIPS, 58 I/O, GPIO, -40 to 85 degC, 64-pin TQFP (PT64), Tray; Manufacturer: Microchip; PartNumber: DSPIC33FJ64GS606-50I/PT; DatasheetVersion: Rev. E; PackageVersion: C04-085B; PackageReference: TQFP-PT64; PackageDescription: 64-Lead Plastic Thin Quad FlatPack, 10 x 10 mm Body, 0.5 mm Pitch; Supplier 1: Digi-Key; Supplier Part Number 1: DSPIC33FJ64GS606-50I/PT-ND; Supplier 2: Mouser; Supplier Part Number 2: 579-33F64GS60650IPT; Mounting Technology: Surface Mount; ComponentLink1Description: Manufacturer URL; ComponentLink1URL: http://www.microchip.com; ComponentLink2Description: Datasheet; ComponentLink2URL: http://ww1.microchip.com/downloads/en/DeviceDoc/70591e.pdf; ComponentLink3Description: Package Specification; ComponentLink3URL: http://www.microchip.com/stellent/groups/techpub_sg/documents/packagingspec/en012702.pdf; ComponentLink4Description: Product URL; ComponentLink4URL: http://www.microchip.com/dsPIC33FJ64GS606
footprint MCHP-TQFP-PT64_N (TQFP, 64-Leads, Body 10x10mm, Pitch 0.5mm, IPC Medium Density)
footprint MCHP-TQFP-PT64_L (TQFP, 64-Leads, Body 10x10mm, Pitch 0.5mm, IPC High Density)
footprint MCHP-TQFP-PT64_M (TQFP, 64-Leads, Body 10x10mm, Pitch 0.5mm, IPC Low Density)
pins: 1 PWM3H/RE5 (io), 2 PWM4L/RE6 (io), 3 PWM4H/RE7 (io), 4 SCK2/FLT12/CN8/RG6 (io), 5 SDI2/FLT11/CN9/RG7 (io), 6 SDO2/FLT10/CN10/RG8 (io), 7 ~{MCLR} (in) "Master Clear (Reset) input. This pin is an active-low Reset to the device.", 8 ~{SS2}/FLT9/SYNCI2/T5CK/CN11/RG9 (io), 9 VSS (power) "Ground reference for logic and I/O pins.", 10 VDD (power) "Positive supply for peripheral logic and I/O pins.", 11 AN5/CMP3B/AQEB1/CN7/RB5 (io), 12 AN4/CMP2C/CMP3A/AQEA1/CN6/RB4 (io), 13 AN3/CMP2B/AINDX1/CN5/RB3 (io), 14 AN2/CMP1C/CMP2A/~{ASS1}/CN4/RB2 (io), 15 PGEC3/AN1/CMP1B/CN3/RB1 (io), 16 PGED3/AN0/CMP1A/CMP4C/CN2/RB0 (io), 17 PGEC1/AN6/CMP3C/CMP4A/OCFA/RB6 (io), 18 PGED1/AN7/CMP4B/RB7 (io), 19 AVDD (power) "Positive supply for analog modules. This pin must be connected at all times.", 20 AVSS (power) "Ground reference for analog modules.", 21 AN8/~{U2CTS}/RB8 (io), 22 AN9/DACOUT/RB9 (io), 23 TMS/AN10/INDX2/RB10 (io), 24 TDO/AN11/EXTREF/RB11 (io), 25 VSS (power) "Ground reference for logic and I/O pins.", 26 VDD (power) "Positive supply for peripheral logic and I/O pins.", 27 TCK/AN12/CMP1D/RB12 (io), 28 TDI/AN13/CMP2D/RB13 (io), 29 AN14/CMP3D/~{SS1}/~{U2RTS}/RB14 (io), 30 AN15/CMP4D/CN12/RB15 (io), 31 U2RX/SDA2/QEA2/CN17/RF4 (io), 32 U2TX/SCL2/QEB2/CN18/RF5 (io), 33 U1TX/SDO1/RF3 (io), 34 U1RX/SDI1/RF2 (io), 35 ~{U1RTS}/SCK1/INT0/RF6 (io), 36 SDA1/RG3 (io), 37 SCL1/RG2 (io), 38 VDD (power) "Positive supply for peripheral logic and I/O pins.", 39 OSC1/CLKIN/RC12 (io), 40 OSC2/REFCLKO/CLKO/RC15 (io), 41 VSS (power) "Ground reference for logic and I/O pins.", 42 IC1/FLT1/SYNCI1/INT1/RD8 (io), 43 IC2/FLT2/~{U1CTS}/INT2/RD9 (io), 44 IC3/INDX1/FLT3/INT3/RD10 (io), 45 IC4/QEA1/FLT4/INT4/RD11 (io), 46 OC1/QEB1/FLT5/RD0 (io), 47 PGED2/SOSCI/T4CK/CN1/RC13 (io), 48 PGEC2/SOSCO/T1CK/CN0/RC14 (io), 49 OC2/SYNCO2/FLT6/RD1 (io), 50 OC3/FLT7/RD2 (io), 51 OC4/SYNCO1/FLT8/RD3 (io), 52 PWM6L/CN13/RD4 (io), 53 PWM6H/CN14/RD5 (io), 54 PWM5L/CN15/RD6 (io), 55 PWM5H/UPDN1/CN16/RD7 (io), 56 VCAP "CPU logic filter capacitor connection.", 57 VDD (power) "Positive supply for peripheral logic and I/O pins.", 58 C1RX/SYNCI4/RF0 (io), 59 C1TX/RF1 (io), 60 PWM1L/RE0 (io), 61 PWM1H/RE1 (io), 62 PWM2L/RE2 (io), 63 PWM2H/RE3 (io), 64 PWM3L/RE4 (io)

## DSPIC33FJ64GS606-E/MR
designator U?
16-Bit Digital Signal Controller with High-Speed PWM, ADC and Comparators, 50 MIPS, 58 I/O, GPIO, -40 to 125 degC, 64-pin QFN (MR64), Tube; Manufacturer: Microchip; PartNumber: DSPIC33FJ64GS606-E/MR; DatasheetVersion: Rev. E; PackageVersion: C04-149C; PackageReference: QFN-MR64; PackageDescription: 64-Lead Plastic Quad Flat, 9 x 9 mm Body, 0.5 mm Pitch; Supplier 1: Digi-Key; Supplier Part Number 1: DSPIC33FJ64GS606-E/MR-ND; Supplier 2: Mouser; Supplier Part Number 2: 579-33FJ64GS606-E/MR; Mounting Technology: Surface Mount; ComponentLink1Description: Manufacturer URL; ComponentLink1URL: http://www.microchip.com; ComponentLink2Description: Datasheet; ComponentLink2URL: http://ww1.microchip.com/downloads/en/DeviceDoc/70591e.pdf; ComponentLink3Description: Package Specification; ComponentLink3URL: http://www.microchip.com/stellent/groups/techpub_sg/documents/packagingspec/en012702.pdf; ComponentLink4Description: Product URL; ComponentLink4URL: http://www.microchip.com/dsPIC33FJ64GS606
footprint MCHP-QFN-MR64-7275X7275TP_N (QFN, 64-Leads, Body 9x9mm, Pitch 0.5mm, Thermal Pad 7.275x7.275mm, IPC Medium Density)
footprint MCHP-QFN-MR64-7275X7275TP_L (QFN, 64-Leads, Body 9x9mm, Pitch 0.5mm, Thermal Pad 7.275x7.275mm, IPC High Density)
footprint MCHP-QFN-MR64-7275X7275TP_M (QFN, 64-Leads, Body 9x9mm, Pitch 0.5mm, Thermal Pad 7.275x7.275mm, IPC Low Density)
pins: 1 PWM3H/RE5 (io), 2 PWM4L/RE6 (io), 3 PWM4H/RE7 (io), 4 SCK2/FLT12/CN8/RG6 (io), 5 SDI2/FLT11/CN9/RG7 (io), 6 SDO2/FLT10/CN10/RG8 (io), 7 ~{MCLR} (in) "Master Clear (Reset) input. This pin is an active-low Reset to the device.", 8 ~{SS2}/FLT9/SYNCI2/T5CK/CN11/RG9 (io), 9 VSS (power) "Ground reference for logic and I/O pins.", 10 VDD (power) "Positive supply for peripheral logic and I/O pins.", 11 AN5/CMP3B/AQEB1/CN7/RB5 (io), 12 AN4/CMP2C/CMP3A/AQEA1/CN6/RB4 (io), 13 AN3/CMP2B/AINDX1/CN5/RB3 (io), 14 AN2/CMP1C/CMP2A/~{ASS1}/CN4/RB2 (io), 15 PGEC3/AN1/CMP1B/CN3/RB1 (io), 16 PGED3/AN0/CMP1A/CMP4C/CN2/RB0 (io), 17 PGEC1/AN6/CMP3C/CMP4A/OCFA/RB6 (io), 18 PGED1/AN7/CMP4B/RB7 (io), 19 AVDD (power) "Positive supply for analog modules. This pin must be connected at all times.", 20 AVSS (power) "Ground reference for analog modules.", 21 AN8/~{U2CTS}/RB8 (io), 22 AN9/DACOUT/RB9 (io), 23 TMS/AN10/INDX2/RB10 (io), 24 TDO/AN11/EXTREF/RB11 (io), 25 VSS (power) "Ground reference for logic and I/O pins.", 26 VDD (power) "Positive supply for peripheral logic and I/O pins.", 27 TCK/AN12/CMP1D/RB12 (io), 28 TDI/AN13/CMP2D/RB13 (io), 29 AN14/CMP3D/~{SS1}/~{U2RTS}/RB14 (io), 30 AN15/CMP4D/CN12/RB15 (io), 31 U2RX/SDA2/QEA2/CN17/RF4 (io), 32 U2TX/SCL2/QEB2/CN18/RF5 (io), 33 U1TX/SDO1/RF3 (io), 34 U1RX/SDI1/RF2 (io), 35 ~{U1RTS}/SCK1/INT0/RF6 (io), 36 SDA1/RG3 (io), 37 SCL1/RG2 (io), 38 VDD (power) "Positive supply for peripheral logic and I/O pins.", 39 OSC1/CLKIN/RC12 (io), 40 OSC2/REFCLKO/CLKO/RC15 (io), 41 VSS (power) "Ground reference for logic and I/O pins.", 42 IC1/FLT1/SYNCI1/INT1/RD8 (io), 43 IC2/FLT2/~{U1CTS}/INT2/RD9 (io), 44 IC3/INDX1/FLT3/INT3/RD10 (io), 45 IC4/QEA1/FLT4/INT4/RD11 (io), 46 OC1/QEB1/FLT5/RD0 (io), 47 PGED2/SOSCI/T4CK/CN1/RC13 (io), 48 PGEC2/SOSCO/T1CK/CN0/RC14 (io), 49 OC2/SYNCO2/FLT6/RD1 (io), 50 OC3/FLT7/RD2 (io), 51 OC4/SYNCO1/FLT8/RD3 (io), 52 PWM6L/CN13/RD4 (io), 53 PWM6H/CN14/RD5 (io), 54 PWM5L/CN15/RD6 (io), 55 PWM5H/UPDN1/CN16/RD7 (io), 56 VCAP "CPU logic filter capacitor connection.", 57 VDD (power) "Positive supply for peripheral logic and I/O pins.", 58 C1RX/SYNCI4/RF0 (io), 59 C1TX/RF1 (io), 60 PWM1L/RE0 (io), 61 PWM1H/RE1 (io), 62 PWM2L/RE2 (io), 63 PWM2H/RE3 (io), 64 PWM3L/RE4 (io), 65 EP (power)

## DSPIC33FJ64GS606-E/PT
designator U?
16-Bit Digital Signal Controller with High-Speed PWM, ADC and Comparators, 50 MIPS, 58 I/O, GPIO, -40 to 125 degC, 64-pin TQFP (PT64), Tray; Manufacturer: Microchip; PartNumber: DSPIC33FJ64GS606-E/PT; DatasheetVersion: Rev. E; PackageVersion: C04-085B; PackageReference: TQFP-PT64; PackageDescription: 64-Lead Plastic Thin Quad FlatPack, 10 x 10 mm Body, 0.5 mm Pitch; Supplier 1: Digi-Key; Supplier Part Number 1: DSPIC33FJ64GS606-E/PT-ND; Supplier 2: Newark; Supplier Part Number 2: 08R1555; Supplier 3: Mouser; Supplier Part Number 3: 579-33FJ64GS606-E/PT; Mounting Technology: Surface Mount; ComponentLink1Description: Manufacturer URL; ComponentLink1URL: http://www.microchip.com; ComponentLink2Description: Datasheet; ComponentLink2URL: http://ww1.microchip.com/downloads/en/DeviceDoc/70591e.pdf; ComponentLink3Description: Package Specification; ComponentLink3URL: http://www.microchip.com/stellent/groups/techpub_sg/documents/packagingspec/en012702.pdf; ComponentLink4Description: Product URL; ComponentLink4URL: http://www.microchip.com/dsPIC33FJ64GS606
footprint MCHP-TQFP-PT64_N (TQFP, 64-Leads, Body 10x10mm, Pitch 0.5mm, IPC Medium Density)
footprint MCHP-TQFP-PT64_L (TQFP, 64-Leads, Body 10x10mm, Pitch 0.5mm, IPC High Density)
footprint MCHP-TQFP-PT64_M (TQFP, 64-Leads, Body 10x10mm, Pitch 0.5mm, IPC Low Density)
pins: 1 PWM3H/RE5 (io), 2 PWM4L/RE6 (io), 3 PWM4H/RE7 (io), 4 SCK2/FLT12/CN8/RG6 (io), 5 SDI2/FLT11/CN9/RG7 (io), 6 SDO2/FLT10/CN10/RG8 (io), 7 ~{MCLR} (in) "Master Clear (Reset) input. This pin is an active-low Reset to the device.", 8 ~{SS2}/FLT9/SYNCI2/T5CK/CN11/RG9 (io), 9 VSS (power) "Ground reference for logic and I/O pins.", 10 VDD (power) "Positive supply for peripheral logic and I/O pins.", 11 AN5/CMP3B/AQEB1/CN7/RB5 (io), 12 AN4/CMP2C/CMP3A/AQEA1/CN6/RB4 (io), 13 AN3/CMP2B/AINDX1/CN5/RB3 (io), 14 AN2/CMP1C/CMP2A/~{ASS1}/CN4/RB2 (io), 15 PGEC3/AN1/CMP1B/CN3/RB1 (io), 16 PGED3/AN0/CMP1A/CMP4C/CN2/RB0 (io), 17 PGEC1/AN6/CMP3C/CMP4A/OCFA/RB6 (io), 18 PGED1/AN7/CMP4B/RB7 (io), 19 AVDD (power) "Positive supply for analog modules. This pin must be connected at all times.", 20 AVSS (power) "Ground reference for analog modules.", 21 AN8/~{U2CTS}/RB8 (io), 22 AN9/DACOUT/RB9 (io), 23 TMS/AN10/INDX2/RB10 (io), 24 TDO/AN11/EXTREF/RB11 (io), 25 VSS (power) "Ground reference for logic and I/O pins.", 26 VDD (power) "Positive supply for peripheral logic and I/O pins.", 27 TCK/AN12/CMP1D/RB12 (io), 28 TDI/AN13/CMP2D/RB13 (io), 29 AN14/CMP3D/~{SS1}/~{U2RTS}/RB14 (io), 30 AN15/CMP4D/CN12/RB15 (io), 31 U2RX/SDA2/QEA2/CN17/RF4 (io), 32 U2TX/SCL2/QEB2/CN18/RF5 (io), 33 U1TX/SDO1/RF3 (io), 34 U1RX/SDI1/RF2 (io), 35 ~{U1RTS}/SCK1/INT0/RF6 (io), 36 SDA1/RG3 (io), 37 SCL1/RG2 (io), 38 VDD (power) "Positive supply for peripheral logic and I/O pins.", 39 OSC1/CLKIN/RC12 (io), 40 OSC2/REFCLKO/CLKO/RC15 (io), 41 VSS (power) "Ground reference for logic and I/O pins.", 42 IC1/FLT1/SYNCI1/INT1/RD8 (io), 43 IC2/FLT2/~{U1CTS}/INT2/RD9 (io), 44 IC3/INDX1/FLT3/INT3/RD10 (io), 45 IC4/QEA1/FLT4/INT4/RD11 (io), 46 OC1/QEB1/FLT5/RD0 (io), 47 PGED2/SOSCI/T4CK/CN1/RC13 (io), 48 PGEC2/SOSCO/T1CK/CN0/RC14 (io), 49 OC2/SYNCO2/FLT6/RD1 (io), 50 OC3/FLT7/RD2 (io), 51 OC4/SYNCO1/FLT8/RD3 (io), 52 PWM6L/CN13/RD4 (io), 53 PWM6H/CN14/RD5 (io), 54 PWM5L/CN15/RD6 (io), 55 PWM5H/UPDN1/CN16/RD7 (io), 56 VCAP "CPU logic filter capacitor connection.", 57 VDD (power) "Positive supply for peripheral logic and I/O pins.", 58 C1RX/SYNCI4/RF0 (io), 59 C1TX/RF1 (io), 60 PWM1L/RE0 (io), 61 PWM1H/RE1 (io), 62 PWM2L/RE2 (io), 63 PWM2H/RE3 (io), 64 PWM3L/RE4 (io)

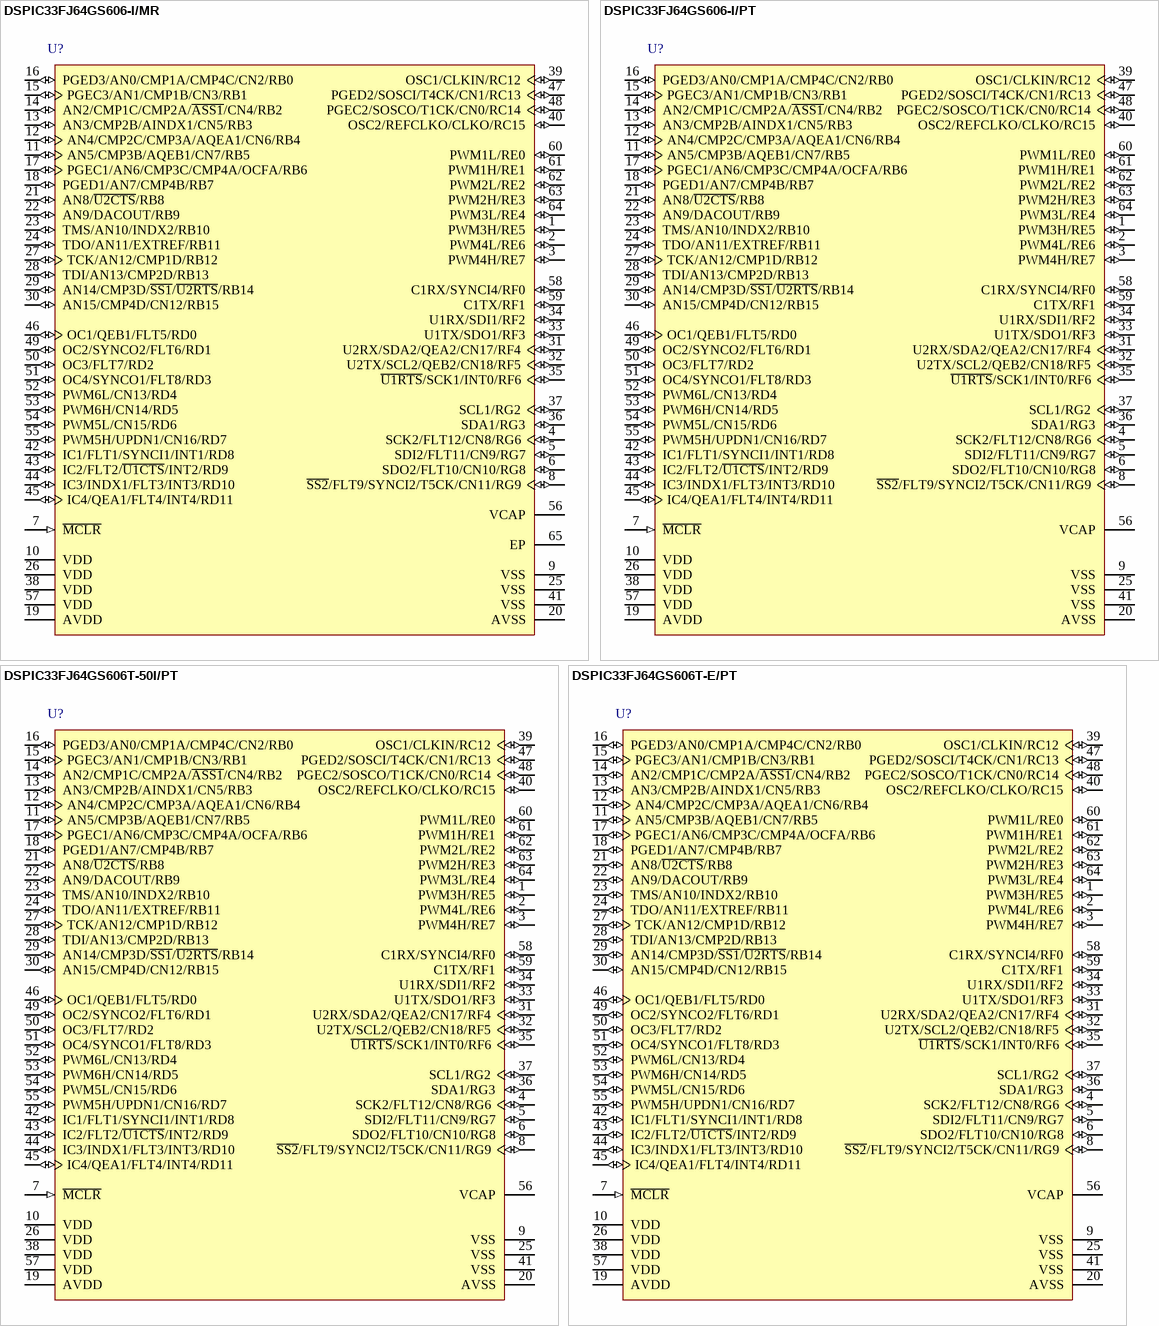
[diagram p72: symbols DSPIC33FJ64GS606-I/MR to DSPIC33FJ64GS606T-E/PT]

## DSPIC33FJ64GS606-I/MR
designator U?
16-Bit Digital Signal Controller with High-Speed PWM, ADC and Comparators, 50 MIPS, 58 I/O, GPIO, -40 to 85 degC, 64-pin QFN (MR64), Tube; Manufacturer: Microchip; PartNumber: DSPIC33FJ64GS606-I/MR; DatasheetVersion: Rev. E; PackageVersion: C04-149C; PackageReference: QFN-MR64; PackageDescription: 64-Lead Plastic Quad Flat, 9 x 9 mm Body, 0.5 mm Pitch; Supplier 1: Digi-Key; Supplier Part Number 1: DSPIC33FJ64GS606-I/MR-ND; Supplier 2: Newark; Supplier Part Number 2: 08R1556; Supplier 3: Mouser; Supplier Part Number 3: 579-33FJ64GS606-I/MR; Mounting Technology: Surface Mount; ComponentLink1Description: Manufacturer URL; ComponentLink1URL: http://www.microchip.com; ComponentLink2Description: Datasheet; ComponentLink2URL: http://ww1.microchip.com/downloads/en/DeviceDoc/70591e.pdf; ComponentLink3Description: Package Specification; ComponentLink3URL: http://www.microchip.com/stellent/groups/techpub_sg/documents/packagingspec/en012702.pdf; ComponentLink4Description: Product URL; ComponentLink4URL: http://www.microchip.com/dsPIC33FJ64GS606
footprint MCHP-QFN-MR64-7275X7275TP_N (QFN, 64-Leads, Body 9x9mm, Pitch 0.5mm, Thermal Pad 7.275x7.275mm, IPC Medium Density)
footprint MCHP-QFN-MR64-7275X7275TP_L (QFN, 64-Leads, Body 9x9mm, Pitch 0.5mm, Thermal Pad 7.275x7.275mm, IPC High Density)
footprint MCHP-QFN-MR64-7275X7275TP_M (QFN, 64-Leads, Body 9x9mm, Pitch 0.5mm, Thermal Pad 7.275x7.275mm, IPC Low Density)
pins: 1 PWM3H/RE5 (io), 2 PWM4L/RE6 (io), 3 PWM4H/RE7 (io), 4 SCK2/FLT12/CN8/RG6 (io), 5 SDI2/FLT11/CN9/RG7 (io), 6 SDO2/FLT10/CN10/RG8 (io), 7 ~{MCLR} (in) "Master Clear (Reset) input. This pin is an active-low Reset to the device.", 8 ~{SS2}/FLT9/SYNCI2/T5CK/CN11/RG9 (io), 9 VSS (power) "Ground reference for logic and I/O pins.", 10 VDD (power) "Positive supply for peripheral logic and I/O pins.", 11 AN5/CMP3B/AQEB1/CN7/RB5 (io), 12 AN4/CMP2C/CMP3A/AQEA1/CN6/RB4 (io), 13 AN3/CMP2B/AINDX1/CN5/RB3 (io), 14 AN2/CMP1C/CMP2A/~{ASS1}/CN4/RB2 (io), 15 PGEC3/AN1/CMP1B/CN3/RB1 (io), 16 PGED3/AN0/CMP1A/CMP4C/CN2/RB0 (io), 17 PGEC1/AN6/CMP3C/CMP4A/OCFA/RB6 (io), 18 PGED1/AN7/CMP4B/RB7 (io), 19 AVDD (power) "Positive supply for analog modules. This pin must be connected at all times.", 20 AVSS (power) "Ground reference for analog modules.", 21 AN8/~{U2CTS}/RB8 (io), 22 AN9/DACOUT/RB9 (io), 23 TMS/AN10/INDX2/RB10 (io), 24 TDO/AN11/EXTREF/RB11 (io), 25 VSS (power) "Ground reference for logic and I/O pins.", 26 VDD (power) "Positive supply for peripheral logic and I/O pins.", 27 TCK/AN12/CMP1D/RB12 (io), 28 TDI/AN13/CMP2D/RB13 (io), 29 AN14/CMP3D/~{SS1}/~{U2RTS}/RB14 (io), 30 AN15/CMP4D/CN12/RB15 (io), 31 U2RX/SDA2/QEA2/CN17/RF4 (io), 32 U2TX/SCL2/QEB2/CN18/RF5 (io), 33 U1TX/SDO1/RF3 (io), 34 U1RX/SDI1/RF2 (io), 35 ~{U1RTS}/SCK1/INT0/RF6 (io), 36 SDA1/RG3 (io), 37 SCL1/RG2 (io), 38 VDD (power) "Positive supply for peripheral logic and I/O pins.", 39 OSC1/CLKIN/RC12 (io), 40 OSC2/REFCLKO/CLKO/RC15 (io), 41 VSS (power) "Ground reference for logic and I/O pins.", 42 IC1/FLT1/SYNCI1/INT1/RD8 (io), 43 IC2/FLT2/~{U1CTS}/INT2/RD9 (io), 44 IC3/INDX1/FLT3/INT3/RD10 (io), 45 IC4/QEA1/FLT4/INT4/RD11 (io), 46 OC1/QEB1/FLT5/RD0 (io), 47 PGED2/SOSCI/T4CK/CN1/RC13 (io), 48 PGEC2/SOSCO/T1CK/CN0/RC14 (io), 49 OC2/SYNCO2/FLT6/RD1 (io), 50 OC3/FLT7/RD2 (io), 51 OC4/SYNCO1/FLT8/RD3 (io), 52 PWM6L/CN13/RD4 (io), 53 PWM6H/CN14/RD5 (io), 54 PWM5L/CN15/RD6 (io), 55 PWM5H/UPDN1/CN16/RD7 (io), 56 VCAP "CPU logic filter capacitor connection.", 57 VDD (power) "Positive supply for peripheral logic and I/O pins.", 58 C1RX/SYNCI4/RF0 (io), 59 C1TX/RF1 (io), 60 PWM1L/RE0 (io), 61 PWM1H/RE1 (io), 62 PWM2L/RE2 (io), 63 PWM2H/RE3 (io), 64 PWM3L/RE4 (io), 65 EP (power)

## DSPIC33FJ64GS606-I/PT
designator U?
16-Bit Digital Signal Controller with High-Speed PWM, ADC and Comparators, 50 MIPS, 58 I/O, GPIO, -40 to 85 degC, 64-pin TQFP (PT64), Tray; Manufacturer: Microchip; PartNumber: DSPIC33FJ64GS606-I/PT; DatasheetVersion: Rev. E; PackageVersion: C04-085B; PackageReference: TQFP-PT64; PackageDescription: 64-Lead Plastic Thin Quad FlatPack, 10 x 10 mm Body, 0.5 mm Pitch; Supplier 1: Digi-Key; Supplier Part Number 1: DSPIC33FJ64GS606-I/PT-ND; Supplier 2: Farnell; Supplier Part Number 2: 1823205; Supplier 3: Farnell; Supplier Part Number 3: 1823205MPKG; Supplier 4: Newark; Supplier Part Number 4: 08R1557; Supplier 5: Mouser; Supplier Part Number 5: 579-33FJ64GS606-I/PT; Mounting Technology: Surface Mount; ComponentLink1Description: Manufacturer URL; ComponentLink1URL: http://www.microchip.com; ComponentLink2Description: Datasheet; ComponentLink2URL: http://ww1.microchip.com/downloads/en/DeviceDoc/70591e.pdf; ComponentLink3Description: Package Specification; ComponentLink3URL: http://www.microchip.com/stellent/groups/techpub_sg/documents/packagingspec/en012702.pdf; ComponentLink4Description: Product URL; ComponentLink4URL: http://www.microchip.com/dsPIC33FJ64GS606
footprint MCHP-TQFP-PT64_N (TQFP, 64-Leads, Body 10x10mm, Pitch 0.5mm, IPC Medium Density)
footprint MCHP-TQFP-PT64_L (TQFP, 64-Leads, Body 10x10mm, Pitch 0.5mm, IPC High Density)
footprint MCHP-TQFP-PT64_M (TQFP, 64-Leads, Body 10x10mm, Pitch 0.5mm, IPC Low Density)
pins: 1 PWM3H/RE5 (io), 2 PWM4L/RE6 (io), 3 PWM4H/RE7 (io), 4 SCK2/FLT12/CN8/RG6 (io), 5 SDI2/FLT11/CN9/RG7 (io), 6 SDO2/FLT10/CN10/RG8 (io), 7 ~{MCLR} (in) "Master Clear (Reset) input. This pin is an active-low Reset to the device.", 8 ~{SS2}/FLT9/SYNCI2/T5CK/CN11/RG9 (io), 9 VSS (power) "Ground reference for logic and I/O pins.", 10 VDD (power) "Positive supply for peripheral logic and I/O pins.", 11 AN5/CMP3B/AQEB1/CN7/RB5 (io), 12 AN4/CMP2C/CMP3A/AQEA1/CN6/RB4 (io), 13 AN3/CMP2B/AINDX1/CN5/RB3 (io), 14 AN2/CMP1C/CMP2A/~{ASS1}/CN4/RB2 (io), 15 PGEC3/AN1/CMP1B/CN3/RB1 (io), 16 PGED3/AN0/CMP1A/CMP4C/CN2/RB0 (io), 17 PGEC1/AN6/CMP3C/CMP4A/OCFA/RB6 (io), 18 PGED1/AN7/CMP4B/RB7 (io), 19 AVDD (power) "Positive supply for analog modules. This pin must be connected at all times.", 20 AVSS (power) "Ground reference for analog modules.", 21 AN8/~{U2CTS}/RB8 (io), 22 AN9/DACOUT/RB9 (io), 23 TMS/AN10/INDX2/RB10 (io), 24 TDO/AN11/EXTREF/RB11 (io), 25 VSS (power) "Ground reference for logic and I/O pins.", 26 VDD (power) "Positive supply for peripheral logic and I/O pins.", 27 TCK/AN12/CMP1D/RB12 (io), 28 TDI/AN13/CMP2D/RB13 (io), 29 AN14/CMP3D/~{SS1}/~{U2RTS}/RB14 (io), 30 AN15/CMP4D/CN12/RB15 (io), 31 U2RX/SDA2/QEA2/CN17/RF4 (io), 32 U2TX/SCL2/QEB2/CN18/RF5 (io), 33 U1TX/SDO1/RF3 (io), 34 U1RX/SDI1/RF2 (io), 35 ~{U1RTS}/SCK1/INT0/RF6 (io), 36 SDA1/RG3 (io), 37 SCL1/RG2 (io), 38 VDD (power) "Positive supply for peripheral logic and I/O pins.", 39 OSC1/CLKIN/RC12 (io), 40 OSC2/REFCLKO/CLKO/RC15 (io), 41 VSS (power) "Ground reference for logic and I/O pins.", 42 IC1/FLT1/SYNCI1/INT1/RD8 (io), 43 IC2/FLT2/~{U1CTS}/INT2/RD9 (io), 44 IC3/INDX1/FLT3/INT3/RD10 (io), 45 IC4/QEA1/FLT4/INT4/RD11 (io), 46 OC1/QEB1/FLT5/RD0 (io), 47 PGED2/SOSCI/T4CK/CN1/RC13 (io), 48 PGEC2/SOSCO/T1CK/CN0/RC14 (io), 49 OC2/SYNCO2/FLT6/RD1 (io), 50 OC3/FLT7/RD2 (io), 51 OC4/SYNCO1/FLT8/RD3 (io), 52 PWM6L/CN13/RD4 (io), 53 PWM6H/CN14/RD5 (io), 54 PWM5L/CN15/RD6 (io), 55 PWM5H/UPDN1/CN16/RD7 (io), 56 VCAP "CPU logic filter capacitor connection.", 57 VDD (power) "Positive supply for peripheral logic and I/O pins.", 58 C1RX/SYNCI4/RF0 (io), 59 C1TX/RF1 (io), 60 PWM1L/RE0 (io), 61 PWM1H/RE1 (io), 62 PWM2L/RE2 (io), 63 PWM2H/RE3 (io), 64 PWM3L/RE4 (io)

## DSPIC33FJ64GS606T-50I/PT
designator U?
16-Bit Digital Signal Controller with High-Speed PWM, ADC and Comparators, 50 MIPS, 58 I/O, GPIO, -40 to 85 degC, 64-pin TQFP (PT64), Tape and Reel; Manufacturer: Microchip; PartNumber: DSPIC33FJ64GS606T-50I/PT; DatasheetVersion: Rev. E; PackageVersion: C04-085B; PackageReference: TQFP-PT64; PackageDescription: 64-Lead Plastic Thin Quad FlatPack, 10 x 10 mm Body, 0.5 mm Pitch; Supplier 1: Digi-Key; Supplier Part Number 1: DSPIC33FJ64GS606T-50I/PT-ND; Supplier 2: Newark; Supplier Part Number 2: 72T9473; Supplier 3: Mouser; Supplier Part Number 3: 579-33F64GS606T50IPT; Mounting Technology: Surface Mount; ComponentLink1Description: Manufacturer URL; ComponentLink1URL: http://www.microchip.com; ComponentLink2Description: Datasheet; ComponentLink2URL: http://ww1.microchip.com/downloads/en/DeviceDoc/70591e.pdf; ComponentLink3Description: Package Specification; ComponentLink3URL: http://www.microchip.com/stellent/groups/techpub_sg/documents/packagingspec/en012702.pdf; ComponentLink4Description: Product URL; ComponentLink4URL: http://www.microchip.com/dsPIC33FJ64GS606
footprint MCHP-TQFP-PT64_N (TQFP, 64-Leads, Body 10x10mm, Pitch 0.5mm, IPC Medium Density)
footprint MCHP-TQFP-PT64_L (TQFP, 64-Leads, Body 10x10mm, Pitch 0.5mm, IPC High Density)
footprint MCHP-TQFP-PT64_M (TQFP, 64-Leads, Body 10x10mm, Pitch 0.5mm, IPC Low Density)
pins: 1 PWM3H/RE5 (io), 2 PWM4L/RE6 (io), 3 PWM4H/RE7 (io), 4 SCK2/FLT12/CN8/RG6 (io), 5 SDI2/FLT11/CN9/RG7 (io), 6 SDO2/FLT10/CN10/RG8 (io), 7 ~{MCLR} (in) "Master Clear (Reset) input. This pin is an active-low Reset to the device.", 8 ~{SS2}/FLT9/SYNCI2/T5CK/CN11/RG9 (io), 9 VSS (power) "Ground reference for logic and I/O pins.", 10 VDD (power) "Positive supply for peripheral logic and I/O pins.", 11 AN5/CMP3B/AQEB1/CN7/RB5 (io), 12 AN4/CMP2C/CMP3A/AQEA1/CN6/RB4 (io), 13 AN3/CMP2B/AINDX1/CN5/RB3 (io), 14 AN2/CMP1C/CMP2A/~{ASS1}/CN4/RB2 (io), 15 PGEC3/AN1/CMP1B/CN3/RB1 (io), 16 PGED3/AN0/CMP1A/CMP4C/CN2/RB0 (io), 17 PGEC1/AN6/CMP3C/CMP4A/OCFA/RB6 (io), 18 PGED1/AN7/CMP4B/RB7 (io), 19 AVDD (power) "Positive supply for analog modules. This pin must be connected at all times.", 20 AVSS (power) "Ground reference for analog modules.", 21 AN8/~{U2CTS}/RB8 (io), 22 AN9/DACOUT/RB9 (io), 23 TMS/AN10/INDX2/RB10 (io), 24 TDO/AN11/EXTREF/RB11 (io), 25 VSS (power) "Ground reference for logic and I/O pins.", 26 VDD (power) "Positive supply for peripheral logic and I/O pins.", 27 TCK/AN12/CMP1D/RB12 (io), 28 TDI/AN13/CMP2D/RB13 (io), 29 AN14/CMP3D/~{SS1}/~{U2RTS}/RB14 (io), 30 AN15/CMP4D/CN12/RB15 (io), 31 U2RX/SDA2/QEA2/CN17/RF4 (io), 32 U2TX/SCL2/QEB2/CN18/RF5 (io), 33 U1TX/SDO1/RF3 (io), 34 U1RX/SDI1/RF2 (io), 35 ~{U1RTS}/SCK1/INT0/RF6 (io), 36 SDA1/RG3 (io), 37 SCL1/RG2 (io), 38 VDD (power) "Positive supply for peripheral logic and I/O pins.", 39 OSC1/CLKIN/RC12 (io), 40 OSC2/REFCLKO/CLKO/RC15 (io), 41 VSS (power) "Ground reference for logic and I/O pins.", 42 IC1/FLT1/SYNCI1/INT1/RD8 (io), 43 IC2/FLT2/~{U1CTS}/INT2/RD9 (io), 44 IC3/INDX1/FLT3/INT3/RD10 (io), 45 IC4/QEA1/FLT4/INT4/RD11 (io), 46 OC1/QEB1/FLT5/RD0 (io), 47 PGED2/SOSCI/T4CK/CN1/RC13 (io), 48 PGEC2/SOSCO/T1CK/CN0/RC14 (io), 49 OC2/SYNCO2/FLT6/RD1 (io), 50 OC3/FLT7/RD2 (io), 51 OC4/SYNCO1/FLT8/RD3 (io), 52 PWM6L/CN13/RD4 (io), 53 PWM6H/CN14/RD5 (io), 54 PWM5L/CN15/RD6 (io), 55 PWM5H/UPDN1/CN16/RD7 (io), 56 VCAP "CPU logic filter capacitor connection.", 57 VDD (power) "Positive supply for peripheral logic and I/O pins.", 58 C1RX/SYNCI4/RF0 (io), 59 C1TX/RF1 (io), 60 PWM1L/RE0 (io), 61 PWM1H/RE1 (io), 62 PWM2L/RE2 (io), 63 PWM2H/RE3 (io), 64 PWM3L/RE4 (io)

## DSPIC33FJ64GS606T-E/PT
designator U?
16-Bit Digital Signal Controller with High-Speed PWM, ADC and Comparators, 50 MIPS, 58 I/O, GPIO, -40 to 125 degC, 64-pin TQFP (PT64), Tape and Reel; Manufacturer: Microchip; PartNumber: DSPIC33FJ64GS606T-E/PT; DatasheetVersion: Rev. E; PackageVersion: C04-085B; PackageReference: TQFP-PT64; PackageDescription: 64-Lead Plastic Thin Quad FlatPack, 10 x 10 mm Body, 0.5 mm Pitch; Mounting Technology: Surface Mount; ComponentLink1Description: Manufacturer URL; ComponentLink1URL: http://www.microchip.com; ComponentLink2Description: Datasheet; ComponentLink2URL: http://ww1.microchip.com/downloads/en/DeviceDoc/70591e.pdf; ComponentLink3Description: Package Specification; ComponentLink3URL: http://www.microchip.com/stellent/groups/techpub_sg/documents/packagingspec/en012702.pdf; ComponentLink4Description: Product URL; ComponentLink4URL: http://www.microchip.com/dsPIC33FJ64GS606
footprint MCHP-TQFP-PT64_N (TQFP, 64-Leads, Body 10x10mm, Pitch 0.5mm, IPC Medium Density)
footprint MCHP-TQFP-PT64_L (TQFP, 64-Leads, Body 10x10mm, Pitch 0.5mm, IPC High Density)
footprint MCHP-TQFP-PT64_M (TQFP, 64-Leads, Body 10x10mm, Pitch 0.5mm, IPC Low Density)
pins: 1 PWM3H/RE5 (io), 2 PWM4L/RE6 (io), 3 PWM4H/RE7 (io), 4 SCK2/FLT12/CN8/RG6 (io), 5 SDI2/FLT11/CN9/RG7 (io), 6 SDO2/FLT10/CN10/RG8 (io), 7 ~{MCLR} (in) "Master Clear (Reset) input. This pin is an active-low Reset to the device.", 8 ~{SS2}/FLT9/SYNCI2/T5CK/CN11/RG9 (io), 9 VSS (power) "Ground reference for logic and I/O pins.", 10 VDD (power) "Positive supply for peripheral logic and I/O pins.", 11 AN5/CMP3B/AQEB1/CN7/RB5 (io), 12 AN4/CMP2C/CMP3A/AQEA1/CN6/RB4 (io), 13 AN3/CMP2B/AINDX1/CN5/RB3 (io), 14 AN2/CMP1C/CMP2A/~{ASS1}/CN4/RB2 (io), 15 PGEC3/AN1/CMP1B/CN3/RB1 (io), 16 PGED3/AN0/CMP1A/CMP4C/CN2/RB0 (io), 17 PGEC1/AN6/CMP3C/CMP4A/OCFA/RB6 (io), 18 PGED1/AN7/CMP4B/RB7 (io), 19 AVDD (power) "Positive supply for analog modules. This pin must be connected at all times.", 20 AVSS (power) "Ground reference for analog modules.", 21 AN8/~{U2CTS}/RB8 (io), 22 AN9/DACOUT/RB9 (io), 23 TMS/AN10/INDX2/RB10 (io), 24 TDO/AN11/EXTREF/RB11 (io), 25 VSS (power) "Ground reference for logic and I/O pins.", 26 VDD (power) "Positive supply for peripheral logic and I/O pins.", 27 TCK/AN12/CMP1D/RB12 (io), 28 TDI/AN13/CMP2D/RB13 (io), 29 AN14/CMP3D/~{SS1}/~{U2RTS}/RB14 (io), 30 AN15/CMP4D/CN12/RB15 (io), 31 U2RX/SDA2/QEA2/CN17/RF4 (io), 32 U2TX/SCL2/QEB2/CN18/RF5 (io), 33 U1TX/SDO1/RF3 (io), 34 U1RX/SDI1/RF2 (io), 35 ~{U1RTS}/SCK1/INT0/RF6 (io), 36 SDA1/RG3 (io), 37 SCL1/RG2 (io), 38 VDD (power) "Positive supply for peripheral logic and I/O pins.", 39 OSC1/CLKIN/RC12 (io), 40 OSC2/REFCLKO/CLKO/RC15 (io), 41 VSS (power) "Ground reference for logic and I/O pins.", 42 IC1/FLT1/SYNCI1/INT1/RD8 (io), 43 IC2/FLT2/~{U1CTS}/INT2/RD9 (io), 44 IC3/INDX1/FLT3/INT3/RD10 (io), 45 IC4/QEA1/FLT4/INT4/RD11 (io), 46 OC1/QEB1/FLT5/RD0 (io), 47 PGED2/SOSCI/T4CK/CN1/RC13 (io), 48 PGEC2/SOSCO/T1CK/CN0/RC14 (io), 49 OC2/SYNCO2/FLT6/RD1 (io), 50 OC3/FLT7/RD2 (io), 51 OC4/SYNCO1/FLT8/RD3 (io), 52 PWM6L/CN13/RD4 (io), 53 PWM6H/CN14/RD5 (io), 54 PWM5L/CN15/RD6 (io), 55 PWM5H/UPDN1/CN16/RD7 (io), 56 VCAP "CPU logic filter capacitor connection.", 57 VDD (power) "Positive supply for peripheral logic and I/O pins.", 58 C1RX/SYNCI4/RF0 (io), 59 C1TX/RF1 (io), 60 PWM1L/RE0 (io), 61 PWM1H/RE1 (io), 62 PWM2L/RE2 (io), 63 PWM2H/RE3 (io), 64 PWM3L/RE4 (io)

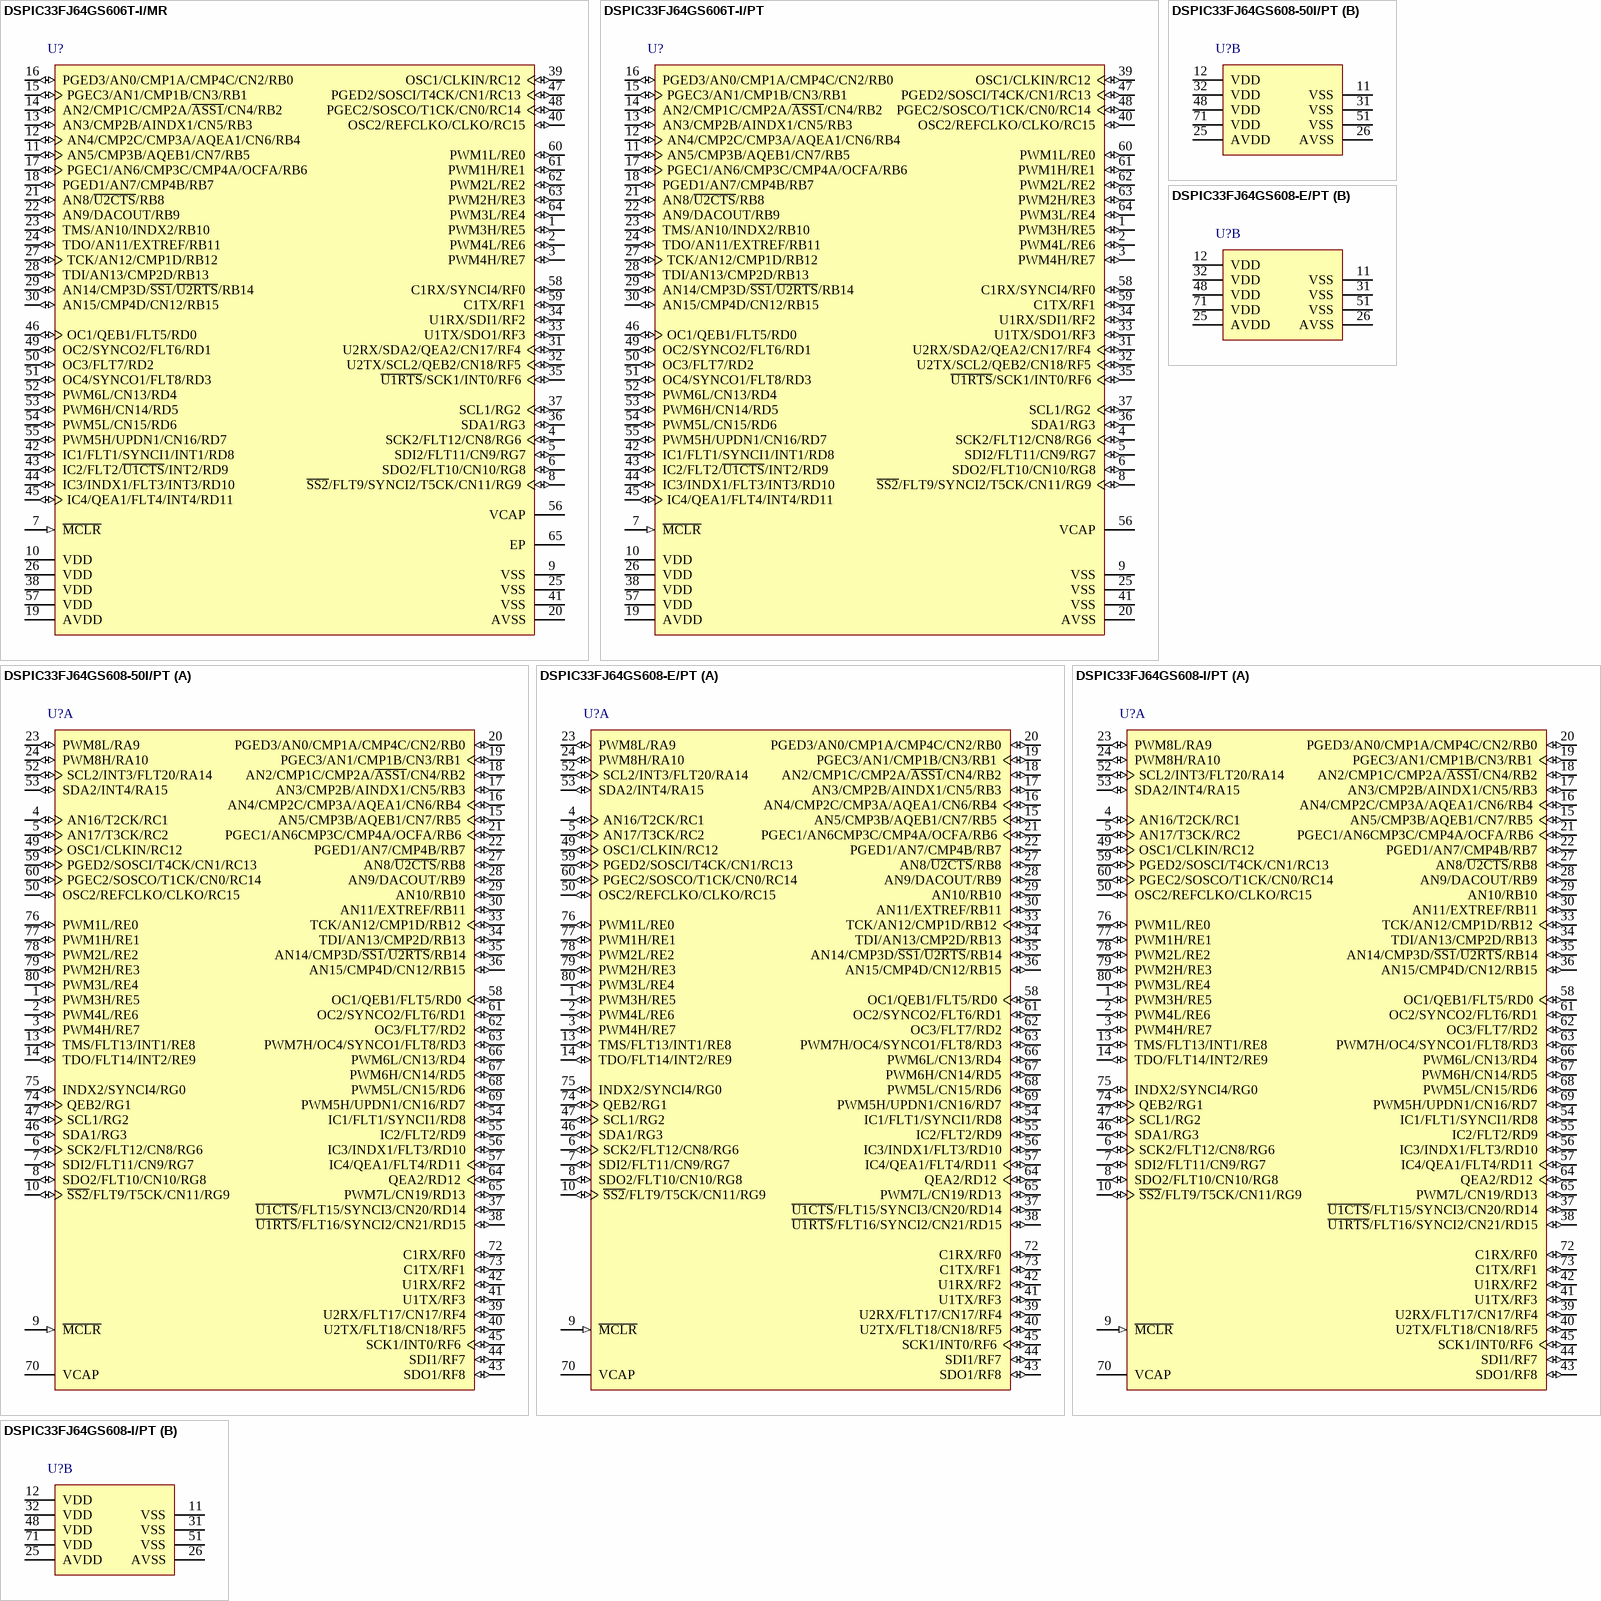
[diagram p73: symbols DSPIC33FJ64GS606T-I/MR to DSPIC33FJ64GS608-I/PT]